# Altium footprint library Motor_Driver_IR2184_TPH1R403_Board_V1.0.PcbLib: 19 footprints (part 1 of 2)
Each footprint in its own frame and in the unit in brackets; x right, y up, seen from the top. Pads: shape width x height; smd on the part's side, far side on the other; paste and mask are expansions set on the pad; w line width, h text height; cw(c..) or ccw(c..) is an arc to the next point about the centre after c.
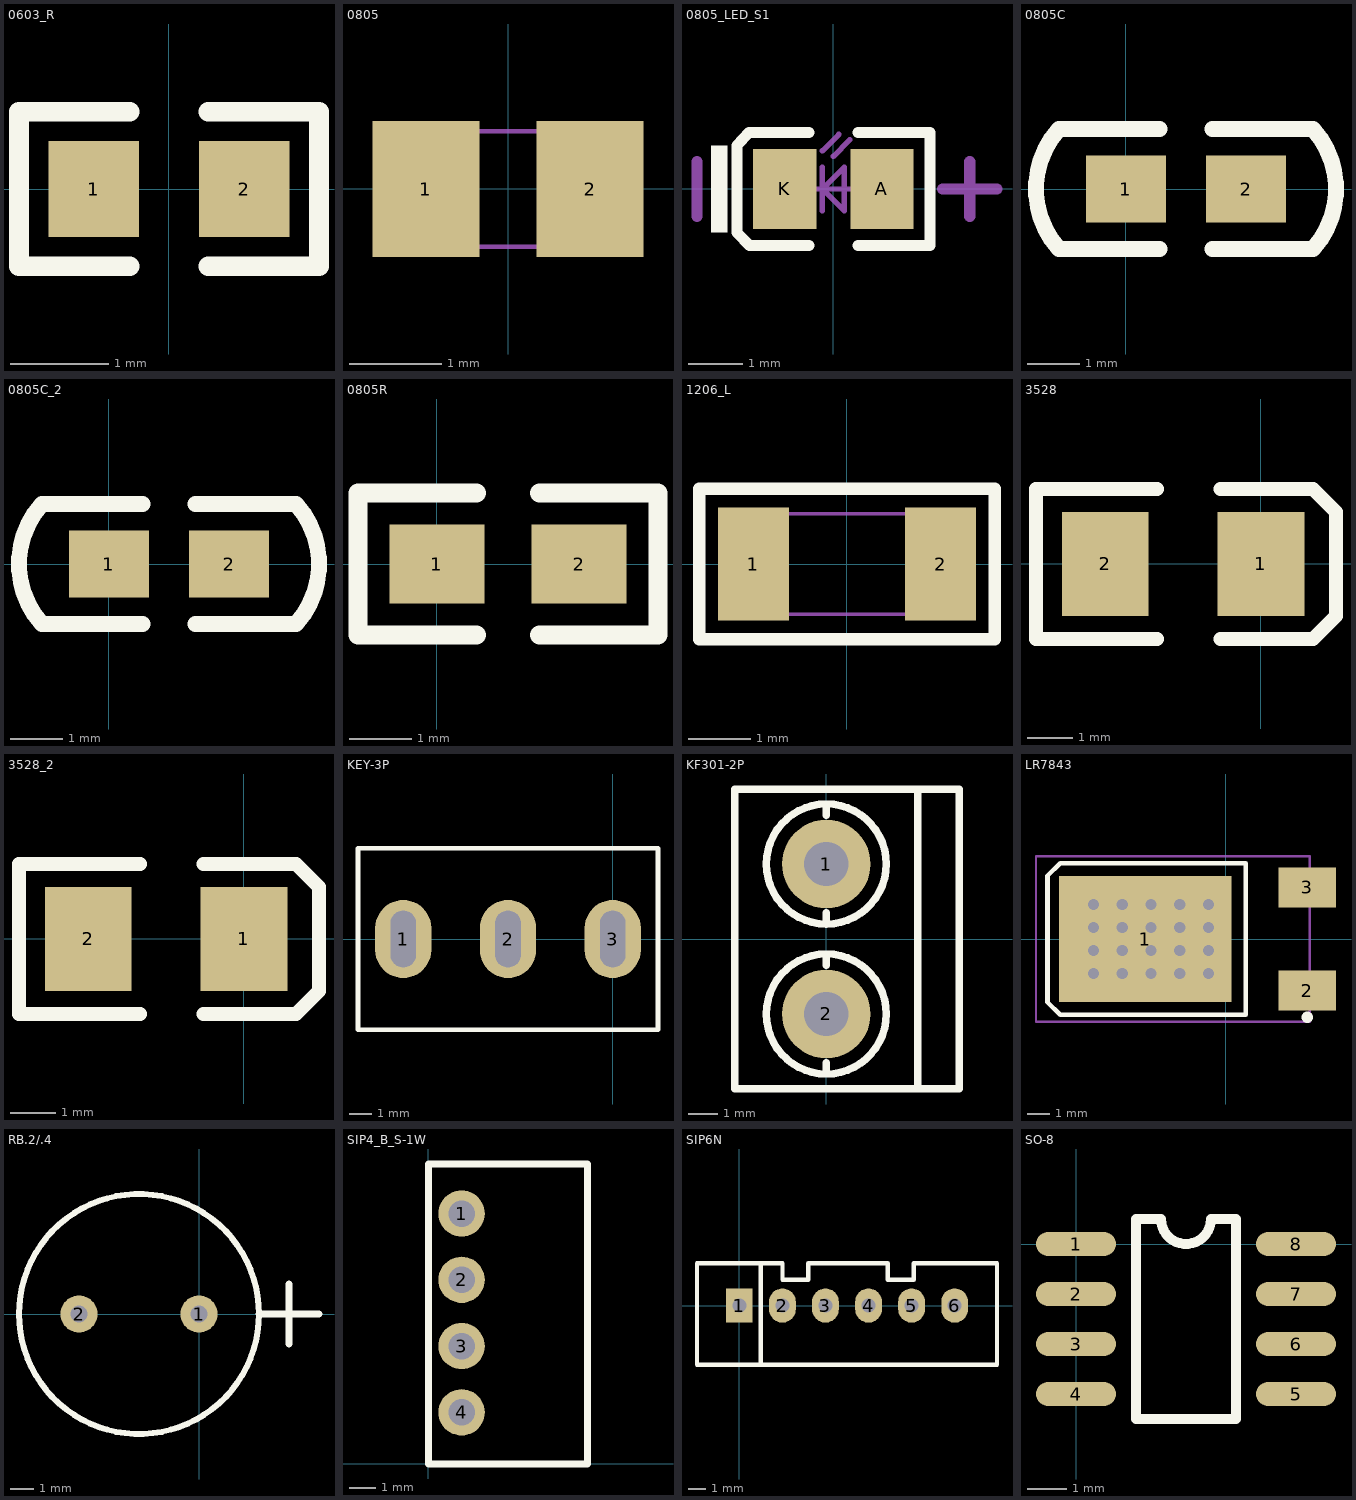
[diagram p0: the footprints below, top view; thin cyan lines are the x and y axes]

## 0603_R [mm]
pads (2):
  rect 0.93x0.98 smd: 1(-0.77,0) 2(0.77,0)
Top Overlay:
  lines w0.2: -0.4,-0.79 -1.535,-0.79 -1.535,0.79 -0.4,0.79 ; 0.4,-0.79 1.535,-0.79 1.535,0.79 0.4,0.79
3D body "User Library-RES_1609-0603.STEP": height 0.56, standoff 0, extent -0.85,-0.4 0.85,0.4

## 0805 [mm]
pads (2):
  rect 1.16x1.47 smd: 1(-0.89,0) 2(0.89,0)
Mechanical 13:
  lines w0.05: -1,-0.625 1,-0.625 1,0.625 -1,0.625 -1,-0.625
3D body "R0805.STEP": height 0.55, standoff 0, extent -1,-0.63 1,0.63

## 0805_LED_S1 [mm]
pads (2):
  rect 1.16x1.47 smd: A(0.89,0) K(-0.89,0)
Top Overlay:
  rectangle: -2.245,-0.8 -1.945,0.8
  lines w0.2: -0.45,-1.035 -1.535,-1.035 -1.77,-0.8 -1.77,0.8 -1.55,1.035 -0.45,1.035 ; 0.45,-1.035 1.77,-1.035 1.77,1.035 0.45,1.035
Mechanical 13:
  lines w0.1: -0.4,0 0.4,0 ; -0.2,-0.4 -0.2,0.4 ; -0.2,0.7 0.1,1 ; 0,0.6 0.3,0.9 ; -0.2,0 0.2,0.4 0.2,-0.4 -0.2,0
Mechanical 15:
  lines w0.203: -2.5,-0.5 -2.5,0.5 ; 2,0 3,0 ; 2.5,-0.5 2.5,0.5
3D body "User Library-led_0805.step": height 1.1, standoff 0, extent -1.01,-0.625 1.01,0.625

## 0805C [mil]
pads (2):
  rect 60x50 smd: 1(0,0) 2(90,0)
Top Overlay:
  lines w12: 25,-45 -50,-45 cw(c0,0) -50,45 25,45 ; 65,-45 140,-45 ccw(c90,0) 140,45 65,45
3D body "SW3DPS-CAPACITOR 0805-DEFAULT.STEP": height 28.74, standoff -1.18, extent 5.63,-25.78 84.37,25.79

## 0805C_2 [mil]
pads (2):
  rect 60x50 smd: 1(0,0) 2(90,0)
Top Overlay:
  lines w12: 25,-45 -50,-45 cw(c0,0) -50,45 25,45 ; 65,-45 140,-45 ccw(c90,0) 140,45 65,45
3D body "SW3DPS-CAPACITOR 0805-DEFAULT.STEP": height 28.74, standoff -1.18, extent 5.64,-25.78 84.38,25.8

## 0805R [mil]
pads (2):
  rect 60x50 smd: 1(0,0) 2(90,0)
Top Overlay:
  lines w12: 25,-45 -50,-45 -50,45 25,45 ; 65,-45 140,-45 140,45 65,45
3D body "User Library-RES_2013-0805.STEP": height 29.92, standoff 0, extent 0.73,-25.57 91.28,27.58

## 1206_L [mm]
pads (2):
  rect 1.13x1.8 smd: 1(-1.49,0) 2(1.49,0)
Top Overlay:
  lines w0.2: -2.355,-1.2 -2.355,1.2 2.355,1.2 2.355,-1.2 -2.355,-1.2
Mechanical 13:
  lines w0.05: -1.6,-0.8 -1.6,0.8 1.6,0.8 1.6,-0.8 -1.6,-0.8

## 3528 [mil]
pads (2):
  rect 75x90 smd: 1(0,0) 2(-135,0)
Top Overlay:
  lines w12: -90,-65 -195,-65 -195,65 -90,65 ; -35,-65 45,-65 65,-45 65,45 45,65 -35,65

## 3528_2 [mil]
pads (2):
  rect 75x90 smd: 1(0,0) 2(-135,0)
Top Overlay:
  lines w12: -90,-65 -195,-65 -195,65 -90,65 ; -35,-65 45,-65 65,-45 65,45 45,65 -35,65
3D body "User Library-AVX_BCASE.STEP": height 79.92, standoff 0, extent -140.83,-56.67 4.84,58.68

## KEY-3P [mil]
pads (3):
  oval 99x138 hole 45 slot 100 at 90 deg: 1(-370.08,0) 2(-185.04,0) 3(0,0)
Top Overlay:
  lines w8: -450.04,-160 79.96,-160 79.96,160 -450.04,160 -450.04,-160

## KF301-2P [mm]
pads (2):
  round 3 hole 1.5: 1(0,2.54) 2(0,-2.54)
Top Overlay:
  circle w0.254: c0,-2.54 r2.032
  circle w0.254: c0,2.54 r2.032
  lines w0.254: 0,-4.572 0,-4.191 ; 0,-0.889 0,-0.508 ; 0,0.508 0,0.889 ; 0,4.191 0,4.572 ; 3.1,-5.08 3.1,5.08 ; -3.1,-5.08 -3.1,5.08 4.5,5.08 4.5,-5.08 -3.1,-5.08

## LR7843 [mm]
pads (3):
  rect 7.6x5.55 smd: 1(-3.556,0)
  rect 2.54x1.778 smd: 2(3.6,-2.28) 3(3.6,2.28)
via -5.842,1.524 diameter 0.8 hole 0.5
via -5.842,0.508 diameter 0.8 hole 0.5
via -5.842,-0.508 diameter 0.8 hole 0.5
via -4.572,1.524 diameter 0.8 hole 0.5
via -4.572,0.508 diameter 0.8 hole 0.5
via -4.572,-0.508 diameter 0.8 hole 0.5
via -4.572,-1.524 diameter 0.8 hole 0.5
via -3.302,1.524 diameter 0.8 hole 0.5
via -3.302,0.508 diameter 0.8 hole 0.5
via -3.302,-0.508 diameter 0.8 hole 0.5
via -2.032,1.524 diameter 0.8 hole 0.5
via -2.032,0.508 diameter 0.8 hole 0.5
via -2.032,-1.524 diameter 0.8 hole 0.5
via -2.032,-0.508 diameter 0.8 hole 0.5
via -3.302,-1.524 diameter 0.8 hole 0.5
via -5.842,-1.524 diameter 0.8 hole 0.5
via -0.762,0.508 diameter 0.8 hole 0.5
via -0.762,1.524 diameter 0.8 hole 0.5
via -0.762,-0.508 diameter 0.8 hole 0.5
via -0.762,-1.524 diameter 0.8 hole 0.5
Top Overlay:
  circle w0.25: c3.6,-3.455 r0.125
  lines w0.2: -7.874,-2.794 -7.318,-3.35 0.889,-3.35 0.889,3.35 -7.318,3.35 -7.874,2.794 -7.874,-2.794
Mechanical 15:
  lines w0.1: -1.85,0 -0.85,0 ; -1.35,-0.5 -1.35,0.5 ; -8.382,-3.65 3.705,-3.65 3.705,3.65 -8.382,3.65 -8.382,-3.65

## RB.2/.4 [mil]
pads (2):
  round 62 hole 28: 1(0,0) 2(-200,0)
Top Overlay:
  circle w10: c-100,0 r200
  lines w12: 100,0 200,0 ; 150,-50 150,50
3D body "CAP 5X12.5X25.STEP": height 985.83, standoff -132.68, extent -345.06,-246.03 147.46,246.04

## SIP4_B_S-1W [mil]
pads (4):
  round 70 hole 40: 1(50,378) 2(50,278) 3(50,178) 4(50,78)
Top Overlay:
  lines w10: 0,0 0,452.76 240,452.76 240,0 0,0

## SIP6N [mil]
pads (6):
  rect 62x80 hole 32: 1(0,0)
  oval 62x80 hole 32: 2(100,0) 3(200,0) 4(300,0) 5(400,0) 6(500,0)
Top Overlay:
  lines w10: -98.43,-137.79 -98.43,98.42 100.39,98.42 ; -98.42,-137.79 598.42,-137.79 598.42,98.42 405,98.42 405,60 345,60 345,98.42 160,98.42 160,60 100,60 100,98.42 ; 50,-137.79 50,98.42
3D body "XH2.54-6P.STEP": height 276.77, standoff -97.24, extent -99.43,-128.92 597.43,95.49

## SO-8 [mil]
pads (8):
  oval 80x24 smd: 1(0,0) 2(0,-50) 3(0,-100) 4(0,-150) 5(220,-150) 6(220,-100) 7(220,-50) 8(220,0)
Top Overlay:
  lines w10: 60,-175 160,-175 160,25 135,25 cw(c110,25) 85,25 60,25 60,-175
3D body "User Library-so8-3.STEP": height 66.93, standoff 0, extent -8.1,-172.45 228.12,20.46